# Altium footprint library PcbLib.PcbLib: 28 footprints (part 1 of 2)
Each footprint in its own frame and in the unit in brackets; x right, y up, seen from the top. Pads: shape width x height; smd on the part's side, far side on the other; paste and mask are expansions set on the pad; w line width, h text height; cw(c..) or ccw(c..) is an arc to the next point about the centre after c.
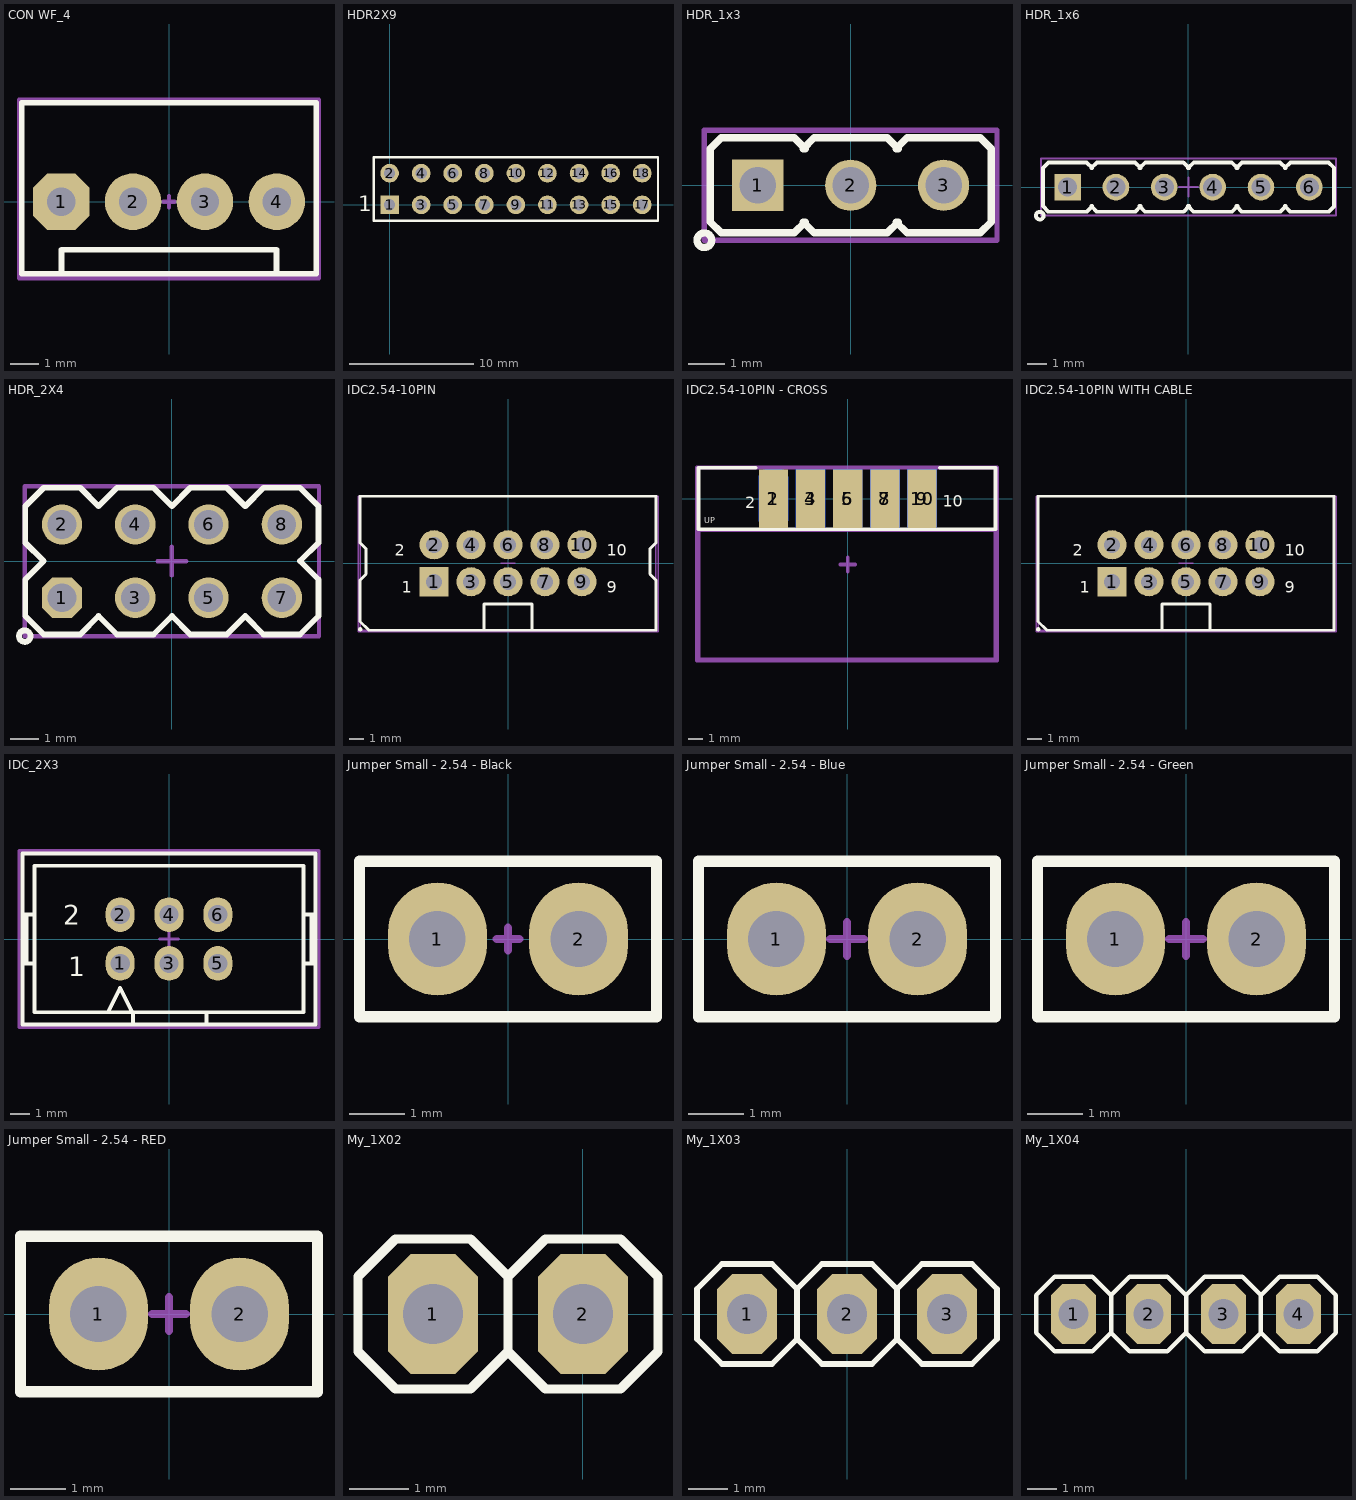
[diagram p0: the footprints below, top view; thin cyan lines are the x and y axes]

## CON WF_4 [mm] "DS1070  WF, Cvilux CI31 pitch 2.54mm-Designer Abbas Basereh"
pads (4):
  oct 2x2 hole 1: 1(-3.81,0)
  round 2 hole 1: 2(-1.27,0) 3(1.27,0) 4(3.81,0)
Top Overlay:
  lines w0.2: -3.8,-2.548 -3.8,-1.7 3.8,-1.7 3.8,-2.548 ; -5.2,-2.548 -5.2,3.5 5.2,3.5 5.2,-2.548 -5.2,-2.548
Mechanical 15:
  lines w0.15: -0.2,0 0.2,0 ; 0,-0.2 0,0.2 ; -5.3,-2.7 -5.3,3.6 5.3,3.6 5.3,-2.7 -5.3,-2.7
3D body "User Library-CI31_4.step": height 11.56, standoff -3.24, extent -5.08,-2.402 5.08,3.398

## HDR2X9 [mm]
pads (18):
  rect 1.5x1.5 hole 0.9: 1(0,0)
  round 1.5 hole 0.9: 2(0,2.54) 3(2.54,0) 4(2.54,2.54) 5(5.08,0) 6(5.08,2.54) 7(7.62,0) 8(7.62,2.54) 9(10.16,0) 10(10.16,2.54) 11(12.7,0) 12(12.7,2.54) 13(15.24,0) 14(15.24,2.54) 15(17.78,0) 16(17.78,2.54) 17(20.32,0) 18(20.32,2.54)
Top Overlay:
  lines w0.2: -1.27,-1.27 -1.27,3.81 21.59,3.81 21.59,-1.27 -1.27,-1.27
  text "1" at -2.54,-0.508 h1.27

## HDR_1x3 [mm] "Header /Jumper box-Designer Abbas Basereh"
height 7.62
pads (3):
  rect 1.4x1.4 / inner rect 1.4x1.4 / far side rect 1.4x2.2 hole 1 mask+0.1: 1(-2.54,0)
  round 1.4 / inner round 1.4 / far side oval 1.4x2.2 hole 1 mask+0.1: 2(0,0) 3(2.54,0)
Top Overlay:
  circle w0.2: c-4,-1.5 r0.2
  lines w0.2: -1.3,-1 -1,-1.3 1,-1.3 1.3,-1 ; -1.3,1 -1,1.3 1,1.3 1.3,1 ; -1.24,-1 -1.54,-1.3 -3.54,-1.3 -3.84,-1 -3.84,1 -3.54,1.3 -1.54,1.3 -1.24,1 ; 1.24,-1 1.54,-1.3 3.54,-1.3 3.84,-1 3.84,1 3.54,1.3 1.54,1.3 1.24,1
Mechanical 15:
  lines w0.15: -4,-1.5 4,-1.5 4,1.5 -4,1.5 -4,-1.5
3D body "User Library-PinHeaderX3.STEP": height 8.61, standoff -3.58, extent -3.82,-1.46 3.8,1.46

## HDR_1x6 [mm] "Header /Jumper box-Designer Abbas Basereh"
height 7.62
pads (6):
  rect 1.4x1.4 / inner rect 1.4x1.4 / far side rect 1.4x2.2 hole 1 mask+0.1: 1(-6.35,0)
  round 1.4 / inner round 1.4 / far side oval 1.4x2.2 hole 1 mask+0.1: 2(-3.81,0) 3(-1.27,0) 4(1.27,0) 5(3.81,0) 6(6.35,0)
Top Overlay:
  circle w0.2: c-7.81,-1.5 r0.2
  lines w0.2: -5.11,-1 -4.81,-1.3 -2.81,-1.3 -2.51,-1 ; -5.11,1 -4.81,1.3 -2.81,1.3 -2.51,1 ; -5.05,-1 -5.35,-1.3 -7.35,-1.3 -7.65,-1 -7.65,1 -7.35,1.3 -5.35,1.3 -5.05,1 ; -2.57,-1 -2.27,-1.3 -0.27,-1.3 0.03,-1 ; -2.57,1 -2.27,1.3 -0.27,1.3 0.03,1 ; -0.025,-1 0.275,-1.3 2.275,-1.3 2.575,-1 ; -0.025,1 0.275,1.3 2.275,1.3 2.575,1 ; 2.515,-1 2.815,-1.3 4.815,-1.3 5.115,-1 ; 2.515,1 2.815,1.3 4.815,1.3 5.115,1 ; 5.055,-1 5.355,-1.3 7.355,-1.3 7.64,-1.015 7.64,1.015 7.355,1.3 5.355,1.3 5.055,1
Mechanical 15:
  lines w0.1: -0.5,0 0.5,0 ; 0,-0.5 0,0.5 ; -7.75,-1.5 7.75,-1.5 7.75,1.5 -7.75,1.5 -7.75,-1.5
3D body "User Library-PinHeaderX3.STEP": height 8.61, standoff -3.58, extent -7.63,-1.46 -0.01,1.46
3D body "User Library-PinHeaderX3.STEP": height 8.61, standoff -3.58, extent -0.01,-1.46 7.61,1.46

## HDR_2X4 [mm] "Designer:Abbas Basereh"
height 7.62
pads (8):
  oct 1.4x1.4 / inner oct 1.4x1.4 / far side oct 1.4x2.2 hole 1 mask+0.1: 1(-3.81,-1.27)
  round 1.4 / inner round 1.4 / far side oval 1.4x2.2 hole 1 mask+0.1: 2(-3.81,1.27) 3(-1.27,-1.27) 4(-1.27,1.27) 5(1.27,-1.27) 6(1.27,1.27) 7(3.81,-1.27) 8(3.81,1.27)
Top Overlay:
  circle w0.2: c-5.1,-2.6 r0.2
  lines w0.2: -5.08,-1.905 -5.08,-0.635 -4.445,0 -5.08,0.635 -5.08,1.905 -4.445,2.54 -3.175,2.54 -2.54,1.905 -1.905,2.54 -0.635,2.54 0,1.905 0.635,2.54 1.905,2.54 2.54,1.905 3.175,2.54 4.445,2.54 5.08,1.905 5.08,0.635 4.445,0 5.08,-0.635 5.08,-1.905 4.445,-2.54 3.175,-2.54 2.54,-1.905 1.905,-2.54 0.635,-2.54 0,-1.905 -0.635,-2.54 -1.905,-2.54 -2.54,-1.905 -3.175,-2.54 -4.445,-2.54 -5.08,-1.905
Mechanical 15:
  lines w0.15: -0.5,0 0.5,0 ; 0,-0.5 0,0.5 ; -5.1,-2.6 5.1,-2.6 5.1,2.6 -5.1,2.6 -5.1,-2.6
3D body "User Library-Header_Male_4Pin.STEP": height 8.54, standoff -3, extent -5.08,0 5.08,2.49
3D body "User Library-Header_Male_4Pin.STEP": height 8.54, standoff -3, extent -5.08,-2.49 5.08,0

## IDC2.54-10PIN [mm] "Connector; IDC, Low Profile Male Header, Thru-Hole; 10 Position; Vertical; Pitch 2.54 mm; 20.32 x 9.2 x 9.45 mm (LxWxH) DESIGNER : ABBAS BASEREH"
height 9.45
pads (10):
  rect 2x2 hole 1.1: 1(-5.08,-1.27)
  round 2 hole 1.1: 2(-5.08,1.27) 3(-2.54,-1.27) 4(-2.54,1.27) 5(0,-1.27) 6(0,1.27) 7(2.54,-1.27) 8(2.54,1.27) 9(5.08,-1.27) 10(5.08,1.27)
Top Overlay:
  lines w0.2: -1.65,-4.6 -1.65,-2.8 1.65,-2.8 1.65,-4.6 ; -1.65,-4.6 1.65,-4.6 ; -1.65,-4.6 -9.55,-4.6 -10.16,-3.99 -10.16,-1.16 -9.75,-0.75 -9.75,1 -10.16,1.41 -10.16,4.6 10.16,4.6 10.16,1.41 9.75,1 9.75,-0.75 10.16,-1.16 10.16,-4.6 1.65,-4.6
  lines w0.3: -10.15,-4.55 -10.15,-4.525
  text "9" at 6.788,-2.02 h0.8
  text "10" at 6.788,0.52 h0.8
  text "1" at -7.288,-2.02 h0.8
  text "2" at -7.788,0.52 h0.8
Mechanical 13:
  lines w0.1: -10.16,-4.6 -10.16,4.6 10.16,4.6 10.16,-4.6 -10.16,-4.6
Mechanical 15:
  lines w0.1: -0.5,0 0.5,0 ; -10.3,-4.7 10.3,-4.7 10.3,4.6 -10.3,4.6 -10.3,-4.7
3D body "User Library-IDC Socket Male 10pin Straight THT Goldplated 2_54mm.STEP": height 9.17, standoff -3.23, extent -10.15,-4.25 10.15,4.6

## IDC2.54-10PIN - CROSS [mm] "Connector; IDC, Low Profile Male Header, Thru-Hole; 10 Position; Vertical; Pitch 2.54 mm; 20.32 x 9.2 x 9.45 mm (LxWxH) DESIGNER : ABBAS BASEREH"
height 9.45
pads (10):
  rrect50% 2x4 smd far side: 1(-5.08,0)
  rect 2x4 smd: 2(-5.08,0) 4(-2.54,0) 6(0,0) 8(2.54,0) 10(5.08,0)
  rect 2x4 smd far side: 3(-2.54,0) 5(0,0) 7(2.54,0) 9(5.08,0)
Top Overlay:
  lines w0.254: -6.3,2.1 -10.2,2.1 -10.2,-2.1 10.1,-2.1 10.1,2.1 6.3,2.1
  text "UP" at -9.8,-1.7 h0.4
  text "10" at 6.5,-0.57 h0.8
  text "2" at -7,-0.67 h0.8
Bottom Overlay:
  text "9" at 7.3,-0.57 h0.8
  text "1" at -6.6,-0.67 h0.8
Mechanical 13:
  lines w0.254: -10.2,-11 -10.2,-2.17 -10.1,-2.17 10.1,-2.17 10.1,-11 -10.2,-11
  text "SOCKET PLACE" at -2.4,-6.6 h0.4
  text "PCB EDGE" at -9.6,-1.87 h0.4
Mechanical 15:
  lines w0.254: -0.5,-4.5 0.5,-4.5 ; 0,-5 0,-4 ; -10.3,-11.07 -10.3,2.13 10.2,2.13 10.2,-11.07 -10.3,-11.07
3D body "User Library-IDC Socket Male 10pin Straight THT Goldplated 2_54mm.STEP": height 4.27, standoff -4.58, extent -10.15,-10.97 10.15,1.43

## IDC2.54-10PIN WITH CABLE [mm] "Connector; IDC, Low Profile Male Header, Thru-Hole; 10 Position; Vertical; Pitch 2.54 mm; 20.32 x 9.2 x 9.45 mm (LxWxH) DESIGNER : ABBAS BASEREH"
height 9.45
pads (10):
  rect 2x2 hole 1.1: 1(-5.08,-1.27)
  round 2 hole 1.1: 2(-5.08,1.27) 3(-2.54,-1.27) 4(-2.54,1.27) 5(0,-1.27) 6(0,1.27) 7(2.54,-1.27) 8(2.54,1.27) 9(5.08,-1.27) 10(5.08,1.27)
Top Overlay:
  lines w0.2: -1.65,-4.6 -9.55,-4.6 -10.16,-3.99 -10.16,4.6 10.16,4.6 10.16,-4.6 1.65,-4.6 ; -1.65,-4.6 1.65,-4.6 ; -1.65,-4.6 -1.65,-2.8 1.65,-2.8 1.65,-4.6
  lines w0.3: -10.15,-4.55 -10.15,-4.525
  text "2" at -7.788,0.52 h0.8
  text "1" at -7.288,-2.02 h0.8
  text "10" at 6.788,0.52 h0.8
  text "9" at 6.788,-2.02 h0.8
Mechanical 13:
  lines w0.1: -10.16,-4.6 10.16,-4.6 10.16,4.6 -10.16,4.6 -10.16,-4.6
Mechanical 15:
  lines w0.1: -0.5,0 0.5,0 ; -10.3,-4.7 -10.3,4.6 10.3,4.6 10.3,-4.7 -10.3,-4.7
3D body "sockets_awp10-7241t.STEP": height 133.79, standoff 2.2, extent -8.7,-4.599 8.7,5.216
3D body "header_awhw10g-0202-t.STEP": height 9, standoff -3.5, extent -10.15,-4.4 10.17,4.4

## IDC_2X3 [mm] "IDC2X3 FOR PROGPIN AND JUMPER BOX AND ETC. DESIGNER ABBAS BASEREH"
height 7.62
pads (6):
  oval 1.5x1.8 hole 1 mask+0.1: 1(-2.54,-1.27) 2(-2.54,1.27) 3(0,-1.27) 4(0,1.27) 5(2.54,-1.27) 6(2.54,1.27)
Top Overlay:
  lines w0.2: -7.62,-1.27 -6.985,-1.27 ; -7.62,1.27 -6.985,1.27 ; -7.408,-1.27 -7.408,1.27 ; -3.175,-3.81 -2.54,-2.54 -1.905,-3.81 ; -1.865,-4.445 -1.865,-3.81 ; 1.945,-4.445 1.945,-3.81 ; 6.985,-1.27 7.62,-1.27 ; 6.985,1.27 7.62,1.27 ; 7.408,-1.27 7.408,1.27 ; -7.62,-4.445 7.62,-4.445 7.62,4.445 -7.62,4.445 -7.62,-4.445 ; -6.985,-3.81 6.985,-3.81 6.985,3.81 -6.985,3.81 -6.985,-3.81
  text "2" at -5.512,0.737 h1
  text "1" at -5.232,-1.93 h1
Mechanical 15:
  lines w0.15: -0.5,0 0.5,0 ; 0,-0.5 0,0.5 ; -7.8,-4.6 7.8,-4.6 7.8,4.6 -7.8,4.6 -7.8,-4.6
3D body "User Library-IDC Socket Male 6pin Straight THT Goldplated 2_54mm.STEP": height 9.17, standoff -3.23, extent -7.61,-4.25 7.61,4.6

## Jumper Small - 2.54 - Black [mil] "Designer Abbas Basereh"
height 300
pads (2):
  oval 70x80 hole 40: 1(-50,0) 2(50,0)
Top Overlay:
  lines w7.87: -105.12,-55.12 -105.12,55.12 105.12,55.12 105.12,-55.12 -105.12,-55.12
Mechanical 15:
  lines w5.91: -7.87,0 7.87,0 ; 0,-7.87 0,7.87 ; -106.3,-55.12 -106.3,55.12 106.3,55.12 106.3,-55.12 -106.3,-55.12
3D body "header02.STEP": height 330, standoff -100, extent -100,-50 100,50
3D body "jumper_akspt_g-red.STEP": height 337.4, standoff 102.36, extent -98.03,-48.03 98.04,48.04

## Jumper Small - 2.54 - Blue [mil] "Designer Abbas Basereh"
height 300
pads (2):
  oval 70x80 hole 40: 1(-50,0) 2(50,0)
Top Overlay:
  lines w7.87: -105.12,-55.12 105.12,-55.12 105.12,55.12 -105.12,55.12 -105.12,-55.12
Mechanical 15:
  lines w5.91: -11.81,0 11.81,0 ; 0,-11.81 0,11.81 ; -106.3,-55.12 -106.3,55.12 106.3,55.12 106.3,-55.12 -106.3,-55.12
3D body "jumper_akspt_g-red.STEP": height 337.4, standoff 102.36, extent -98.03,-48.03 98.04,48.04
3D body "header02.STEP": height 330, standoff -100, extent -100,-50 100,50

## Jumper Small - 2.54 - Green [mil] "Designer Abbas Basereh"
height 300
pads (2):
  oval 70x80 hole 40: 1(-50,0) 2(50,0)
Top Overlay:
  lines w7.87: -105.12,-55.12 -105.12,55.12 105.12,55.12 105.12,-55.12 -105.12,-55.12
Mechanical 15:
  lines w5.91: -11.81,0 11.81,0 ; 0,-11.81 0,11.81 ; -106.3,-55.12 106.3,-55.12 106.3,55.12 -106.3,55.12 -106.3,-55.12
3D body "header02.STEP": height 330, standoff -100, extent -100,-50 100,50
3D body "jumper_akspt_g-red.STEP": height 337.4, standoff 102.36, extent -98.03,-48.03 98.04,48.04

## Jumper Small - 2.54 - RED [mil] "Designer Abbas Basereh"
height 300
pads (2):
  oval 70x80 hole 40: 1(-50,0) 2(50,0)
Top Overlay:
  lines w7.87: -105.12,-55.12 -105.12,55.12 105.12,55.12 105.12,-55.12 -105.12,-55.12
Mechanical 15:
  lines w5.91: -11.81,0 11.81,0 ; 0,-11.81 0,11.81 ; -106.3,-55.12 -106.3,55.12 106.3,55.12 106.3,-55.12 -106.3,-55.12
3D body "header02.STEP": height 330, standoff -100, extent -100,-50 100,50
3D body "jumper_akspt_g-red.STEP": height 337.4, standoff 102.36, extent -98.03,-48.03 98.04,48.04

## My_1X02 [mil]
pads (2):
  oct 60x80 hole 40: 1(-100,0) 2(0,0)
Top Overlay:
  rectangle: -110,-10 -90,10
  rectangle: -10,-10 10,10
  lines w6: -50,-25 -25,-50 25,-50 50,-25 50,25 25,50 -25,50 -50,25 ; -50,-25 -75,-50 -125,-50 -150,-25 -150,25 -125,50 -75,50 -50,25 ; -50,-25 -50,25

## My_1X03 [mil]
pads (3):
  oct 60x80 hole 40: 1(-100,0) 2(0,0) 3(100,0)
Top Overlay:
  rectangle: -10,-10 10,10
  rectangle: -110,-10 -90,10
  rectangle: 90,-10 110,10
  lines w6: -50,-25 -50,25 ; -50,-25 -75,-50 -125,-50 -150,-25 -150,25 -125,50 -75,50 -50,25 ; -50,-25 -25,-50 25,-50 50,-25 ; -50,25 -25,50 25,50 50,25 ; 50,-25 50,25 ; 50,-25 75,-50 125,-50 150,-25 150,25 125,50 75,50 50,25

## My_1X04 [mil]
pads (4):
  oct 60x80 hole 40: 1(-150,0) 2(-50,0) 3(50,0) 4(150,0)
Top Overlay:
  rectangle: 140,-10 160,10
  rectangle: -160,-10 -140,10
  rectangle: -60,-10 -40,10
  rectangle: 40,-10 60,10
  lines w6: -100,-25 -75,-50 -25,-50 0,-25 ; -100,-25 -125,-50 -175,-50 -200,-25 -200,25 -175,50 -125,50 -100,25 ; -100,-25 -100,25 ; -100,25 -75,50 -25,50 0,25 ; 0,-25 0,25 ; 0,-25 25,-50 75,-50 100,-25 ; 0,25 25,50 75,50 100,25 ; 100,-25 125,-50 175,-50 200,-25 200,25 175,50 125,50 100,25 ; 100,-25 100,25